# Altium footprint library SOIC127P600X170-8N.PcbLib: 1 footprints
Each footprint in its own frame and in the unit in brackets; x right, y up, seen from the top. Pads: shape width x height; smd on the part's side, far side on the other; paste and mask are expansions set on the pad; w line width, h text height; cw(c..) or ccw(c..) is an arc to the next point about the centre after c.
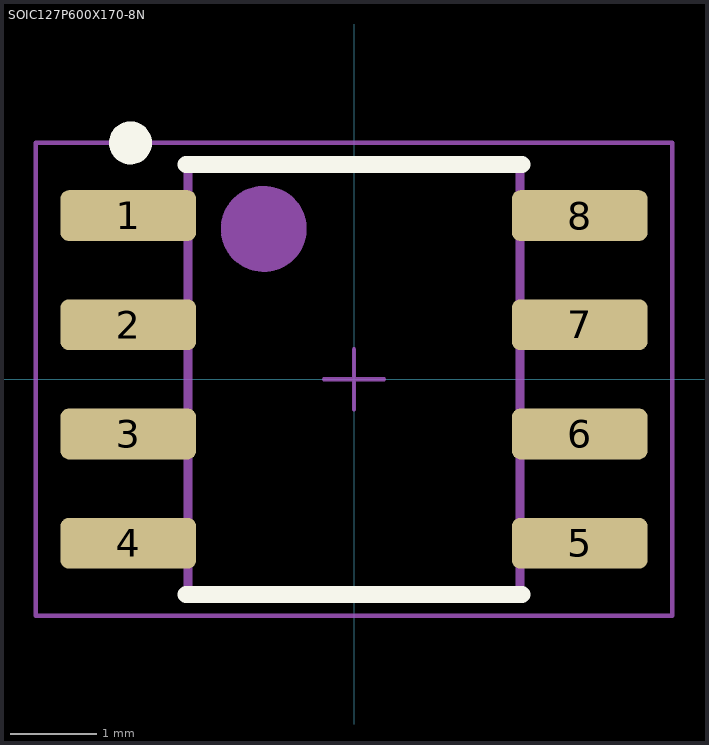
[diagram p0: the footprint, top view; thin cyan lines are the x and y axes]

## SOIC127P600X170-8N [mm] "Small Outline IC (SOIC), 1.27 mm pitch; 8 pin, 4.90 mm L X 3.85 mm W X 1.70 mm H body"
height 1.7
pads (8):
  rrect33% 1.58x0.59 smd: 1(-2.625,1.905) 2(-2.625,0.635) 3(-2.625,-0.635) 4(-2.625,-1.905) 5(2.625,-1.905) 6(2.625,-0.635) 7(2.625,0.635) 8(2.625,1.905)
Top Overlay:
  circle w0.25: c-2.6,2.75 r0.125
  lines w0.2: -1.95,-2.5 1.95,-2.5 ; -1.95,2.5 1.95,2.5
Top Assembly:
  circle w0.5: c-1.05,1.75 r0.25
  lines w0.1: -1.93,-2.45 1.93,-2.45 1.93,2.45 -1.93,2.45 -1.93,-2.45
Top Courtyard:
  lines w0.05: -3.7,-2.75 3.7,-2.75 3.7,2.75 -3.7,2.75 -3.7,-2.75
Top Designator:
  text ".Designator" at -0.35,0 h1
Top Component Center:
  lines w0.05: -0.35,0 0.35,0 ; 0,-0.35 0,0.35
3D body "SOIC127P600X170-8N.STEP": height 1.7, standoff 0, extent -3,-2.45 3,2.45